# Altium integrated library Morpheus_bottom.IntLib: 29 symbols
Pins are listed as number, name and electrical type; pins without a type are passive.

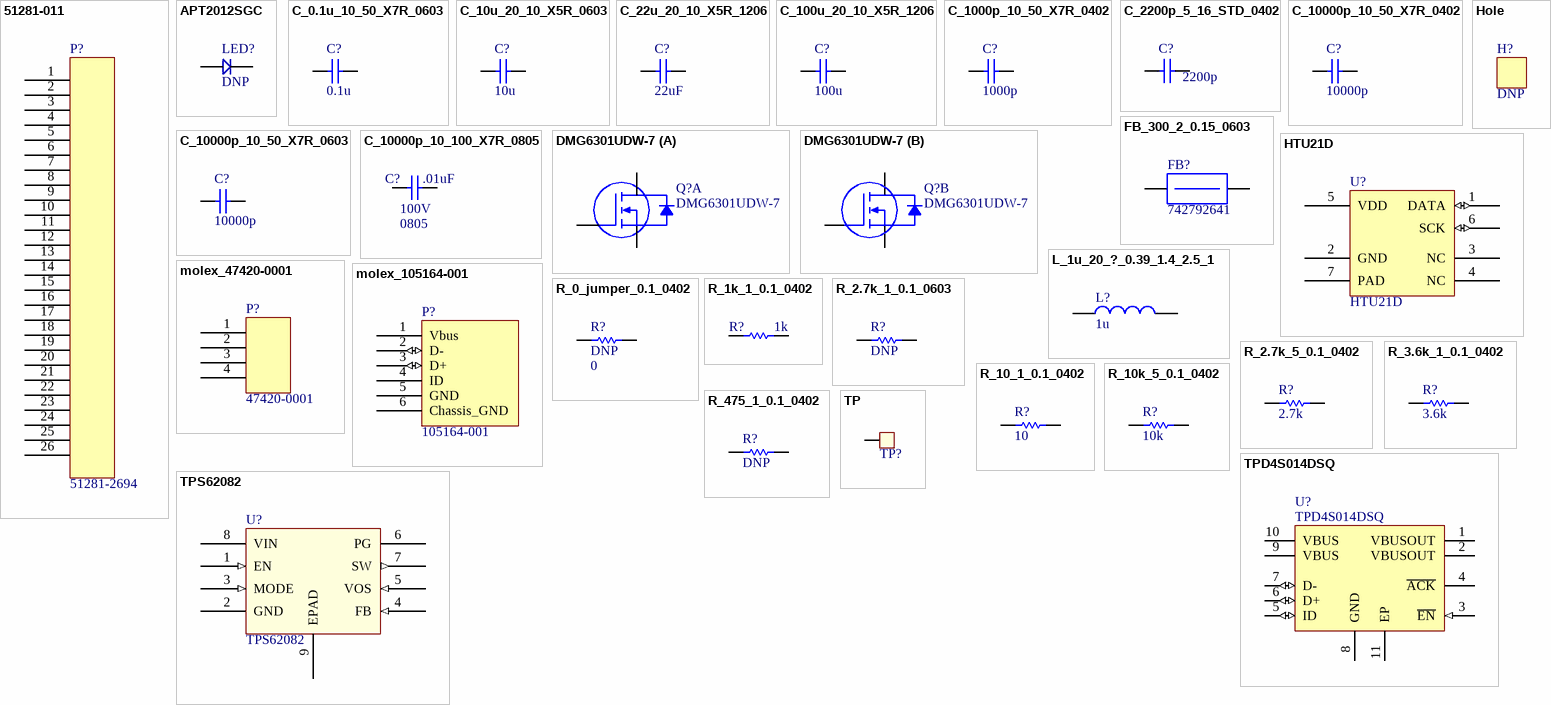
[diagram p0: symbols 51281-011 to TPS62082]

## 51281-011
designator P?, comment 51281-2694
Molex 26-pin 0.5mm pitch connector; PN: 51281-2694; Vendor: Molex
footprint molex_51281-2694_reverse (Molex 26-pin 0.5mm pitch connector with reverse pinout)
pins: 1, 2, 3, 4, 5, 6, 7, 8, 9, 10, 11, 12, 13, 14, 15, 16, 17, 18, 19, 20, 21, 22, 23, 24, 25, 26

## APT2012SGC
designator LED?, comment DNP
Kingbright Green SMT LED
footprint LED_Kingbright
pins: 1 Anode, 2 Cathode

## C_0.1u_10_50_X7R_0603
designator C?, comment 0.1u
Chip capacitor; Vendor: TDK; PN: C1608X7R1H104K080AA; Tolerance: 10%; Voltage: 50V; Temp: X7R; Value: 0.1u; Size: 0603
footprint CAP0603 (Chip Capacitor, 2-Leads, Body 0603 / 1.60x0.8mm, IPC High Density)
pins: 1, 2

## C_10u_20_10_X5R_0603
designator C?, comment 10u
Chip capacitor; Vendor: Taiyo Yuden; PN: LMK107BJ106MALTD; Tolerance: 20%; Voltage: 10V; Temp: X5R; Value: 10u; Size: 0603
footprint CAP0603_SENSE_DVT (Chip Capacitor, 2-Leads)
pins: 1, 2

## C_22u_20_10_X5R_1206
designator C?, comment 22uF
Chip capacitor; Value: 22u; Vendor: Taiyo Yuden; PN: LMK316BJ226ML; Tolerance: 20%; Voltage: 10V; Temp: X5R; Size: 1206; Hello_PN: *
footprint CAP1206_SENSE_DVT (Chip Capacitor, 2-Leads)
pins: 1, 2

## C_100u_20_10_X5R_1206
designator C?, comment 100u
Chip capacitor; Vendor: TDK; PN: C3216X5R1A107M160AC; Tolerance: 20%; Voltage: 10V; Temp: X5R; Value: 100u; Size: 1206
footprint CAP1206_SENSE_DVT (Chip Capacitor, 2-Leads)
pins: 1, 2

## C_1000p_10_50_X7R_0402
designator C?, comment 1000p
Chip capacitor; Vendor: Murata; PN: GRM155R71H102KA01D; Tolerance: 10%; Voltage: 50V; Temp: X7R; Value: 1000p; Size: 0402
footprint CAP0402_SENSE_DVT (Chip Capacitor, 2-Leads)
pins: 1, 2

## C_2200p_5_16_STD_0402
designator C?, comment 2200p
Chip capacitor; Vendor: Taiyo Yuden; PN: EMK105SD222JV-F; Tolerance: 5 %; Voltage: 16V; Temp: Standard; Value: 2200p; Size: 0402
footprint CAP0402_SENSE_DVT (Chip Capacitor, 2-Leads)
pins: 1, 2

## C_10000p_10_50_X7R_0402
designator C?, comment 10000p
Chip capacitor; Vendor: Taiyo Yuden; PN: UMK105B7103KV-F; Tolerance: 10%; Voltage: 50; Temp: X7R; Value: 10000p; Size: 0402
footprint CAP0402_SENSE_DVT (Chip Capacitor, 2-Leads)
pins: 1, 2

## C_10000p_10_50_X7R_0603
designator C?, comment 10000p
Chip capacitor; Vendor: TDK; PN: C1608X7R1H103K080AA; Tolerance: 10%; Voltage: 50; Temp: X7R; Value: 10000p; Size: 0603
footprint CAP0603_SENSE_DVT (Chip Capacitor, 2-Leads)
footprint Model Name (Model Description)
pins: 1, 2

## C_10000p_10_100_X7R_0805
designator C?, comment .01uF  Size: 0805  Voltage: 100V
Chip capacitor; Vendor: TDK; PN: C2012X7R2A103K085AA; Tolerance: 10%; Temp: X7R; Value: .01uF
footprint CAP0805_SENSE_DVT (Chip Capacitor, 2-Leads)
pins: 1, 2

## DMG6301UDW-7
designator Q?
Vendor: Diodes Inc.; PN: DMG6301UDW-7
footprint SC-70-6 (SC-70 with 6 leads)
part A pins: 1 S1, 2 G1, 6 D1
part B pins: 3 D2, 4 S2, 5 G2

## FB_300_2_0.15_0603
designator FB?, comment 742792641
Ferrite bead, 300 ohm impedance; Vendor: Wuerth; impedance at 100 MHz: 300; rated current: 2 A; DCR: 0.15 ohm; PN: 742792641
footprint RES0603_SENSE_DVT (Chip resistor 0603)
pins: 1, 2

## Hole
designator H?, comment DNP
general purpose hole
footprint HOLE_ROUND_0.6mm
footprint HOLE_ROUND_1.6mm
footprint HOLE_ROUND_1.7mm
footprint HOLE_ROUND_2.4mm
footprint HOLE_ROUND_3.1mm
footprint HOLE_ROUND_2.1mm
footprint HOLE_ROUND_1.8mm

## HTU21D
designator U?
Meas-spec T/H sensor; Vendor: Measurement specialties; PN: HTU21D
footprint HTU2xx
pins: 1 DATA (io), 2 GND (power), 3 NC, 4 NC, 5 VDD (power), 6 SCK (io), 7 PAD

## L_1u_20_?_0.39_1.4_2.5_1
designator L?, comment 1u
SMD power inductor, 1uH; PN: XFL3012-102ME; Vendor: Coilcraft; Tolerance: 20%; RDC: 0.39; I_max: 2.5; I_sat: 1.4; Value: 1u; Q: ?
footprint INDC3030X13N (Chip Inductor, 2-Leads, Body 3.00x3.00mm, IPC Medium Density)
pins: 1, 2

## molex_47420-0001
designator P?, comment 47420-0001
Molex 4-pin spring connector 1.8 mm working height; PN: 47420-0001; Vendor: Molex
footprint molex_47420-0001 (Molex 4-pin spring connector)
pins: 1, 2, 3, 4

## molex_105164-001
designator P?, comment 105164-001
Molex right-angle reverse flangeless USB Mini-B OTG receptacle; PN: 105164-001; Vendor: Molex
footprint molex_105164-001 (Molex reverse flangless USB receptacle)
pins: 1 Vbus (power), 2 D- (io), 3 D+ (io), 4 ID, 5 GND (power), 6 Chassis_GND (power)

## R_0_jumper_0.1_0402
designator R?, comment DNP  value 0
Chip Resistor; Vendor: Panasonic; Tolerance: Jumper; Power: 0.1 W; PN: ERJ-2GE0R00X; Model: *; Size: 0402
footprint RES0402_SENSE_DVT (Chip resistor 0402)
pins: 1, 2

## R_1k_1_0.1_0402
designator R?, comment 1k
Chip Resistor; Vendor: Panasonic; Tolerance: 1 %; Power: 0.1 W; PN: ERJ-2RKF1001X; Model: *; Value: 1k; Size: 0402
footprint RES0402_SENSE_DVT (Chip resistor 0402)
pins: 1, 2

## R_2.7k_1_0.1_0603
designator R?, comment DNP
Chip Resistor; Value: 2.7k; Vendor: Panasonic; Tolerance: 1 %; Power: 0.1 W; PN: ERJ-3EKF2701V; Model: *; Size: 0603
footprint RES0603_SENSE_DVT (Chip resistor 0603)
pins: 1, 2

## R_2.7k_5_0.1_0402
designator R?, comment 2.7k
Chip Resistor; Vendor: Panasonic; Tolerance: 5 %; Power: 0.1 W; PN: ERJ-2GEJ272X; Model: *; Value: 2.7k; Size: 0402
footprint RES0402_SENSE_DVT (Chip resistor 0402)
pins: 1, 2

## R_3.6k_1_0.1_0402
designator R?, comment 3.6k
Chip Resistor; Vendor: Panasonic; Tolerance: 1 %; Power: 0.1 W; PN: ERJ-2RKF3601X; Model: *; Value: 3.6k; Size: 0402
footprint RES0402_SENSE_DVT (Chip resistor 0402)
pins: 1, 2

## R_10_1_0.1_0402
designator R?, comment 10
Chip Resistor; Vendor: Panasonic; Tolerance: 1 %; Power: 0.1 W; PN: ERJ-2RKF10R0X; Model: *; Value: 10; Size: 0402
footprint RES0402_SENSE_DVT (Chip resistor 0402)
pins: 1, 2

## R_10k_5_0.1_0402
designator R?, comment 10k
Chip Resistor; Vendor: Panasonic; Tolerance: 5 %; Power: 0.1 W; PN: ERJ-2GEJ103X; Model: *; Value: 10k; Size: 0402
footprint RES0402_SENSE_DVT (Chip resistor 0402)
pins: 1, 2

## R_475_1_0.1_0402
designator R?, comment DNP
Chip Resistor; Value: 475; Vendor: Panasonic; Tolerance: 1 %; Power: 0.1 W; PN: ERJ-2RKF4750X; Model: *; Size: 0402
footprint RES0402_SENSE_DVT (Chip resistor 0402)
pins: 1, 2

## TP
designator TP?  (value not drawn)
testpoint
footprint TP-0.3 (0.3mm radius Test Point)
footprint TP-0.6 (6mm test point)
footprint TP-1.1 (1.1mm TestPoint)
pins: 1

## TPD4S014DSQ
designator U?
TPD4S014 USB Charger Port Protection Including ESD Protection for all Lines and Over Voltage Protection on VBUS. D+/D-/ID pins are interchangable.; Vendor: Texas Instruments; Supplier 1: Digi-Key; Supplier Part Number 1: 296-29093-1-ND; PN: TPD4S014DSQ
footprint DSQ10-1500X900TP (SON, 10-Leads, Body 2x2mm, Pitch 0.4mm, Thermal Pad 1.5x0.9mm, TI Recommended)
pins: 1 VBUSOUT (power) "Connect to PCB internal PCB plane", 2 VBUSOUT (power) "Connect to PCB internal PCB plane", 3 ~{EN} (in) "Enable Active-Low Input. Drive EN low to enable the switch. Drive EN high to disable the switch.", 4 ~{ACK} (oc) "Open-Drain Adapter-Voltage Indicator Output. ACOK is driven low after the VIN voltage is stable between UVLO and OVLO for 16ms (typ). Connect a pullup resistor from ACOK to the logic I/O voltage of the host system.", 5 ID (io) "USB ID signal", 6 D+ (io) "USB data-", 7 D- (io) "USB data+", 8 GND (power) "Connect to PCB ground plane", 9 VBUS (power) "USB connector VBUS", 10 VBUS (power) "USB connector VBUS", 11 EP (power) "Electrically disconnected. Use as heat sink. Connect to GND plane via large PCB PAD"

## TPS62082
designator U?
1.2A buck converter with snoozemode; Vendor: TI; PN: TPS62082
footprint QFN50P200X200X80_HS-9N (QFN, 8-Leads, Body 2.00x2.00mm, Pitch 0.50mm, Thermal Pad 1.60x0.90mm, IPC Medium Density)
pins: 1 EN (in), 2 GND (power), 3 MODE (in), 4 FB (in), 5 VOS (in), 6 PG (oc), 7 SW (out), 8 VIN (power), 9 EPAD (power)